# EAGLE library part AD215 (library 1A-meinLib)
Low Distortion Isolation Amplifier, Isolationsverstärker, 120kHz Bandbreite
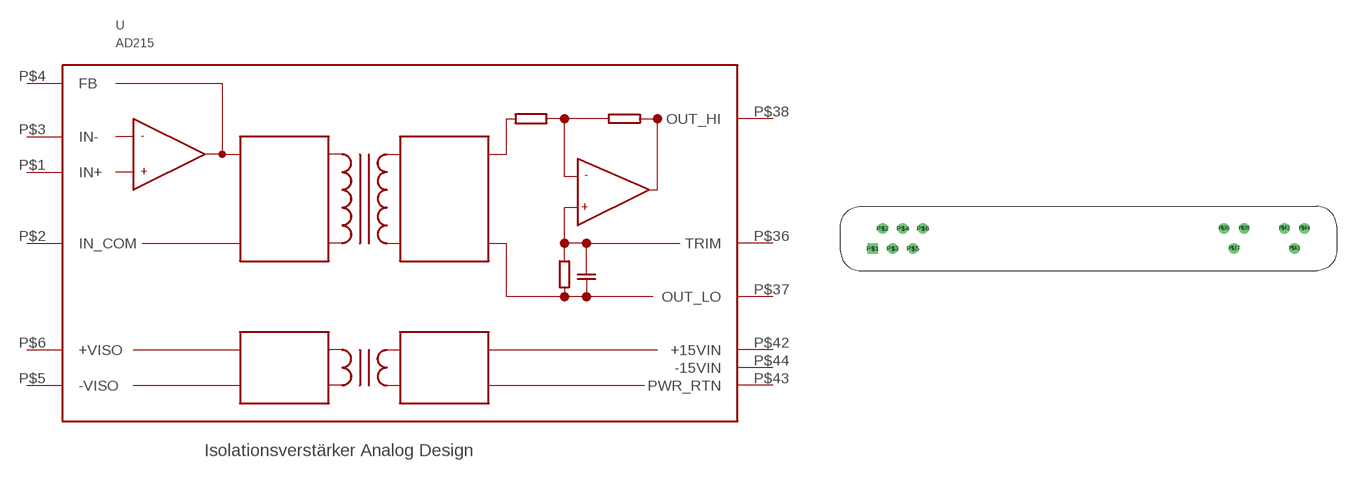
[diagram p99: symbol with the pads of AD215; footprint AD215]

Designator prefix -

## AD215  [AD215]
P$1  IN+
P$2  IN_COM
P$3  IN-
P$4  FB
P$5  -VISO
P$6  +VISO
P$36  TRIM
P$37  OUT_LO
P$38  OUT_HI
P$42  +15VIN
P$43  PWR_RTN
P$44  -15VIN

## Footprint AD215 (pad centres in mm)
drill 0.8 square: P$1 0,0
drill 0.8 round: P$2 1.27,2.54; P$3 2.54,0; P$4 3.81,2.54; P$5 5.08,0; P$6 6.35,2.54; P$36 44.45,2.54; P$37 45.72,0; P$38 46.99,2.54; P$42 52.07,2.54; P$43 53.34,0; P$44 54.61,2.54